# EAGLE library part LTC6405 (library lstolcman_thesis)
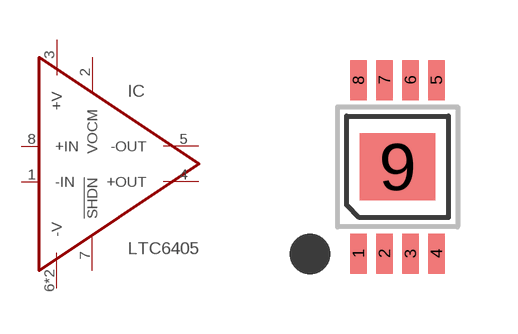
[diagram p0: symbol with the pads of MSOP8_TH; footprint MSOP8_TH]

Designator prefix IC

## LTC6405  [MSOP8_TH]
1  -IN  in
2  VOCM
3  +V  pwr
4  +OUT  out
5  -OUT  out
6  -V  pwr
7  !SHDN
8  +IN  in
9  -V  pwr

## Footprint MSOP8_TH (pad centres in mm)
MS8E Package 8-Lead Plastic MSOP, Exposed Die Pad (Reference LTC DWG # 05-08-1662 Rev K) http://www.linear.com/docs/38722
smd 0.42 x 1: 1 -0.975,-2.17; 2 -0.325,-2.17; 3 0.325,-2.17; 4 0.975,-2.17; 5 0.975,2.17; 6 0.325,2.17; 7 -0.325,2.17; 8 -0.975,2.17
smd 1.88 x 1.68: 9 0,0